# Altium schematic symbol library ECS-2033-320-BN.SchLib: 1 symbol
Pins are listed as number, name and electrical type; pins without a type are passive.

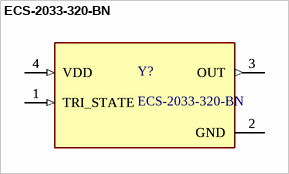
[diagram p0: symbol ECS-2033-320-BN]

## ECS-2033-320-BN
designator Y?
subminiature SMD oscillators; MF: {'manufacturer': u'ECS Inc.'}; Availability: Unavailable; Price: None; MP: ECS-2033-320-BN; Package: None; Value: *
footprint OSC_ECS-2033-320-BN
pins: 1 TRI_STATE (in), 1 TRI_STATE (in), 2 GND (power), 2 GND (power), 3 OUT (out), 3 OUT (out), 4 VDD (in), 4 VDD (in)